# Altium footprint library PcbLib1.PcbLib: 23 footprints (part 1 of 2)
Each footprint in its own frame and in the unit in brackets; x right, y up, seen from the top. Pads: shape width x height; smd on the part's side, far side on the other; paste and mask are expansions set on the pad; w line width, h text height; cw(c..) or ccw(c..) is an arc to the next point about the centre after c.
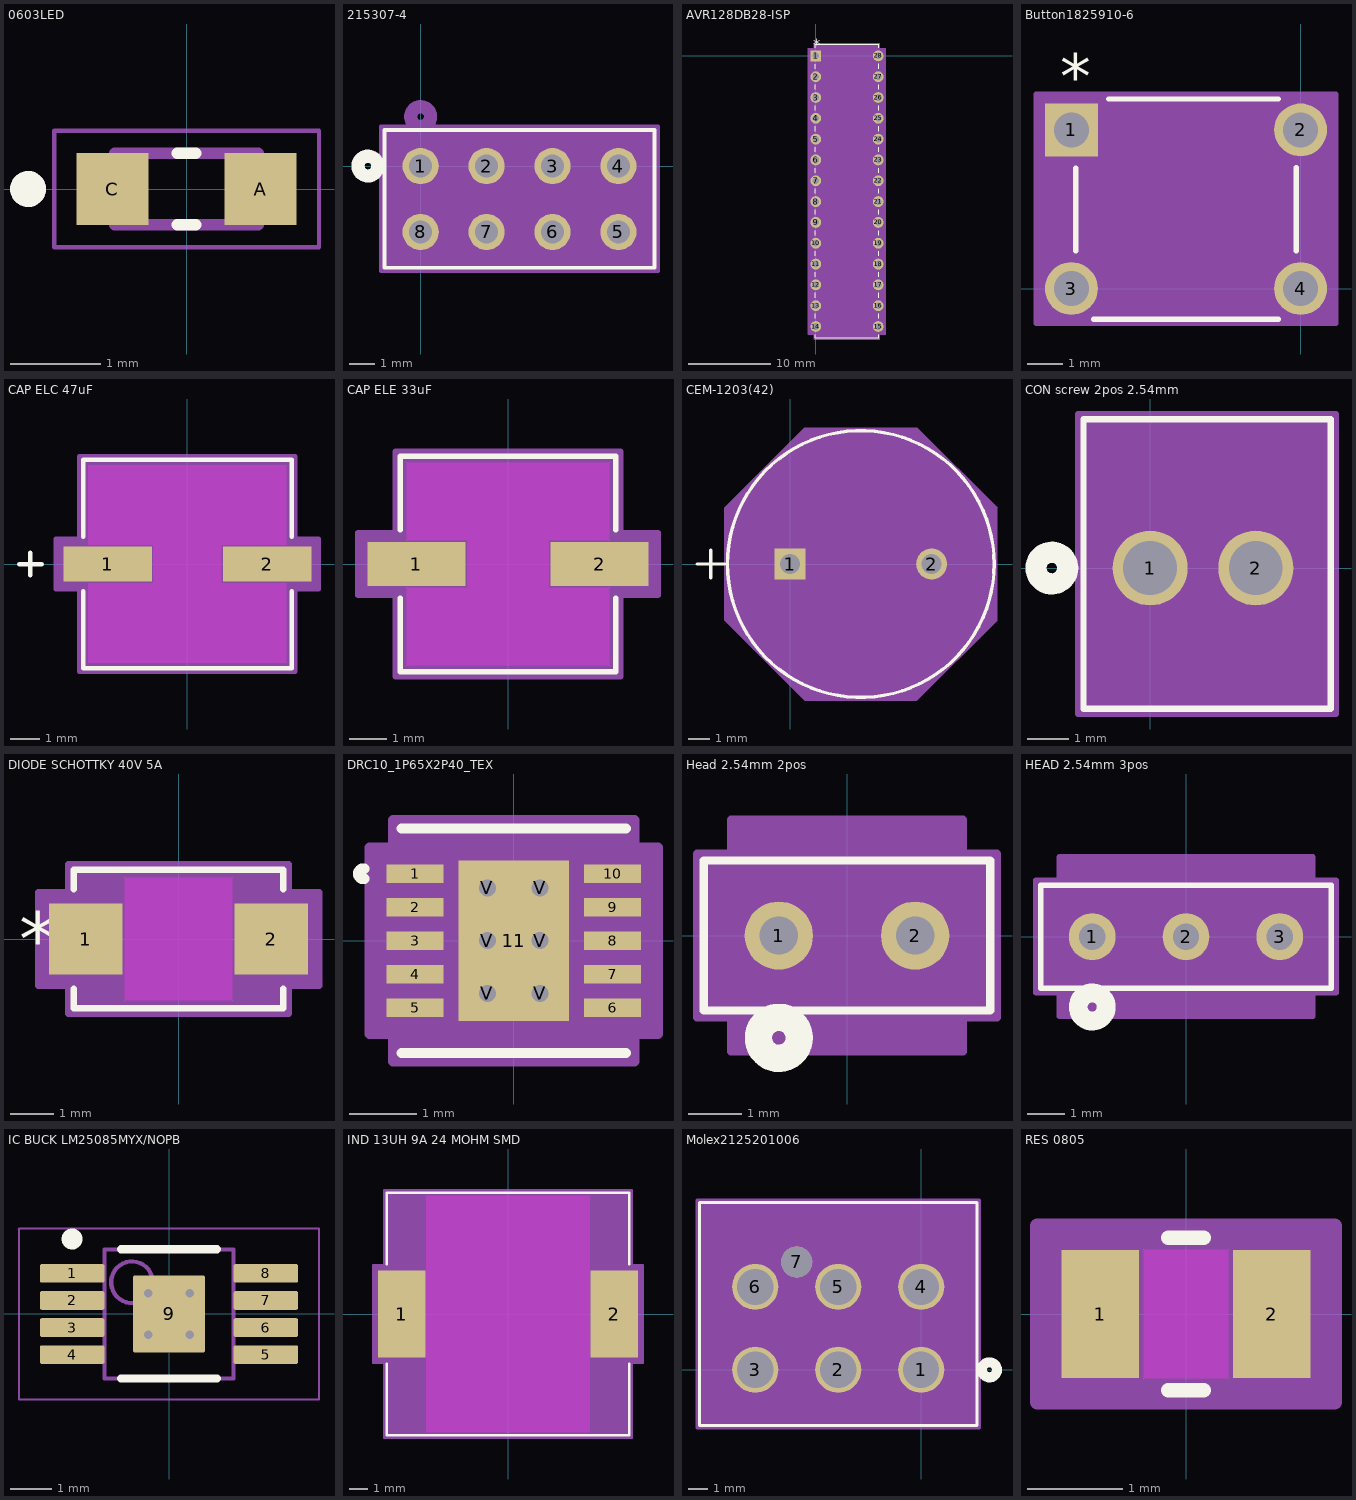
[diagram p0: the footprints below, top view; thin cyan lines are the x and y axes]

## 0603LED [mm]
pads (2):
  rect 0.8x0.8 smd: A(0.825,0) C(-0.825,0)
Top Overlay:
  circle w0.2: c-1.765,0 r0.1
  lines w0.127: -0.105,-0.4 0.105,-0.4 ; -0.105,0.4 0.105,0.4
Mechanical 13:
  circle w0.2: c-1.765,0 r0.1
  lines w0.127: -0.8,-0.4 0.8,-0.4 0.8,0.4 -0.8,0.4 -0.8,-0.4
Mechanical 15:
  lines w0.05: -1.475,-0.65 1.475,-0.65 1.475,0.65 -1.475,0.65 -1.475,-0.65
3D body "step_temp.STEP": height 0.55, standoff 0, extent -0.8,-0.4 0.8,0.4

## 215307-4 [mil]
pads (8):
  round 55 / inner round 60 / far side round 55 hole 35 paste-99999 mask+2: 1(0,0) 2(100,0) 3(200,0) 4(300,0) 5(300,-100) 6(200,-100) 7(100,-100) 8(0,-100)
Top Overlay:
  circle w20: c-80,0 r15
  lines w6: -55,-154.21 355,-154.21 355,55 -55,55 -55,-154.21
Bottom Overlay:
  circle w20: c-80,0 r15
Mechanical 13:
  circle w20: c0,75 r15
  lines w1: -50,-149.21 350,-149.21 350,50 -50,50 -50,-149.21
Mechanical 15:
  region: 360,59.61 -60,59.61 -60,-159.61 360,-159.61
  lines w6: -60,-159.21 -60,60 360,60 360,-159.21 -60,-159.21

## AVR128DB28-ISP [mil]
pads (28):
  rect 52x52 / inner round 60 / far side rect 52x52 hole 32 paste-99999 mask+0: 1(0,0)
  round 52 / inner round 60 / far side round 52 hole 32 paste-99999 mask+0: 2(0,-100) 3(0,-200) 4(0,-300) 5(0,-400) 6(0,-500) 7(0,-600) 8(0,-700) 9(0,-800) 10(0,-900) 11(0,-1000) 12(0,-1100) 13(0,-1200) 14(0,-1300) 15(300,-1300) 16(300,-1200) 17(300,-1100) 18(300,-1000) 19(300,-900) 20(300,-800) 21(300,-700) 22(300,-600) 23(300,-500) 24(300,-400) 25(300,-300) 26(300,-200) 27(300,-100) 28(300,0)
Top Overlay:
  lines w6: -2.5,-1339.02 -2.5,-1355 302.5,-1355 302.5,-1339.02 ; -2.5,-1260.98 -2.5,-1239.02 ; -2.5,-1160.98 -2.5,-1139.02 ; -2.5,-1060.98 -2.5,-1039.02 ; -2.5,-960.98 -2.5,-939.02 ; -2.5,-860.98 -2.5,-839.02 ; -2.5,-760.98 -2.5,-739.02 ; -2.5,-660.98 -2.5,-639.02 ; -2.5,-560.98 -2.5,-539.02 ; -2.5,-460.98 -2.5,-439.02 ; -2.5,-360.98 -2.5,-339.02 ; -2.5,-260.98 -2.5,-239.02 ; -2.5,-160.98 -2.5,-139.02 ; -2.5,-60.98 -2.5,-39.1 ; -2.5,39.1 -2.5,55 302.5,55 302.5,39.02 ; 302.5,-1260.98 302.5,-1239.02 ; 302.5,-1160.98 302.5,-1139.02 ; 302.5,-1060.98 302.5,-1039.02 ; 302.5,-960.98 302.5,-939.02 ; 302.5,-860.98 302.5,-839.02 ; 302.5,-760.98 302.5,-739.02 ; 302.5,-660.98 302.5,-639.02 ; 302.5,-560.98 302.5,-539.02 ; 302.5,-460.98 302.5,-439.02 ; 302.5,-360.98 302.5,-339.02 ; 302.5,-260.98 302.5,-239.02 ; 302.5,-160.98 302.5,-139.02 ; 302.5,-60.98 302.5,-39.02
  text "*" at -12.5,31 h50
Mechanical 13:
  lines w0: 138,50 ccw(c150,50) 162,50
  lines w1: -16,-1316 2.5,-1316 2.5,-1284 -16,-1284 -16,-1316 ; -16,-1216 2.5,-1216 2.5,-1184 -16,-1184 -16,-1216 ; -16,-1116 2.5,-1116 2.5,-1084 -16,-1084 -16,-1116 ; -16,-1016 2.5,-1016 2.5,-984 -16,-984 -16,-1016 ; -16,-916 2.5,-916 2.5,-884 -16,-884 -16,-916 ; -16,-816 2.5,-816 2.5,-784 -16,-784 -16,-816 ; -16,-716 2.5,-716 2.5,-684 -16,-684 -16,-716 ; -16,-616 2.5,-616 2.5,-584 -16,-584 -16,-616 ; -16,-516 2.5,-516 2.5,-484 -16,-484 -16,-516 ; -16,-416 2.5,-416 2.5,-384 -16,-384 -16,-416 ; -16,-316 2.5,-316 2.5,-284 -16,-284 -16,-316 ; -16,-216 2.5,-216 2.5,-184 -16,-184 -16,-216 ; -16,-116 2.5,-116 2.5,-84 -16,-84 -16,-116 ; -16,-16 2.5,-16 2.5,16 -16,16 -16,-16 ; 2.5,-1350 2.5,50 297.5,50 297.5,-1350 2.5,-1350 ; 297.5,-1316 316,-1316 316,-1284 297.5,-1284 297.5,-1316 ; 297.5,-1216 316,-1216 316,-1184 297.5,-1184 297.5,-1216 ; 297.5,-1116 316,-1116 316,-1084 297.5,-1084 297.5,-1116 ; 297.5,-1016 316,-1016 316,-984 297.5,-984 297.5,-1016 ; 297.5,-916 316,-916 316,-884 297.5,-884 297.5,-916 ; 297.5,-816 316,-816 316,-784 297.5,-784 297.5,-816 ; 297.5,-716 316,-716 316,-684 297.5,-684 297.5,-716 ; 297.5,-616 316,-616 316,-584 297.5,-584 297.5,-616 ; 297.5,-516 316,-516 316,-484 297.5,-484 297.5,-516 ; 297.5,-416 316,-416 316,-384 297.5,-384 297.5,-416 ; 297.5,-316 316,-316 316,-284 297.5,-284 297.5,-316 ; 297.5,-216 316,-216 316,-184 297.5,-184 297.5,-216 ; 297.5,-116 316,-116 316,-84 297.5,-84 297.5,-116 ; 297.5,-16 316,-16 316,16 297.5,16 297.5,-16
  text "*" at 0,-25 h50
Mechanical 15:
  region: 307.5,-1336 336,-1336 336,36 307.5,36 307.5,60 -7.5,60 -7.5,36 -36,36 -36,-1336 -7.5,-1336 -7.5,-1360 307.5,-1360
  lines w6: -36,-1336 -7.5,-1336 -7.5,-1360 307.5,-1360 307.5,-1336 336,-1336 336,36 307.5,36 307.5,60 -7.5,60 -7.5,36 -36,36 -36,-1336
3D body "SPDIP28_SP_MCH.step": height 205.12, standoff -100, extent -5,-1350 314.49,50

## Button1825910-6 [mil]
pads (4):
  rect 59x59 / inner round 60 / far side rect 59x59 hole 39 paste-99999 mask+0: 1(-255.91,177.17)
  round 59 / inner round 60 / far side round 59 hole 39 paste-99999 mask-29.5: 2(0,177.17) 3(-255.91,0) 4(0,0)
Top Overlay:
  lines w6: -250.95,42.31 -250.95,134.57 ; -230.8,-34.42 -25.1,-34.42 ; -214.26,211.58 -25.1,211.58 ; -4.95,42.31 -4.95,134.85
  text "*" at -268.41,211.67 h50
Mechanical 13:
  lines w0: -139.95,206.58 ccw(c-127.95,206.58) -115.95,206.58
  lines w1: -275.41,-19.5 -245.95,-19.5 -245.95,19.5 -275.41,19.5 -275.41,-19.5 ; -275.41,157.67 -245.95,157.67 -245.95,196.67 -275.41,196.67 -275.41,157.67 ; -245.95,-29.42 -245.95,206.58 -9.95,206.58 -9.95,-29.42 -245.95,-29.42 ; -9.95,-19.5 19.5,-19.5 19.5,19.5 -9.95,19.5 -9.95,-19.5 ; -9.95,157.67 19.5,157.67 19.5,196.67 -9.95,196.67 -9.95,157.67
  text "*" at -222.5,155 h50
Mechanical 15:
  region: 0,-39 39.5,-39 39.5,217 0,217 0,216.58 -255.95,216.58 -255.91,217 -295.41,217 -295.41,-39 -255.91,-39 -255.95,-39.42 0,-39.42
  lines w6: -295.41,-39 39.5,-39 39.5,217 -295.41,217 -295.41,-39

## CAP ELC 47uF [mil] "UWT1H470MCL1GS"
pads (2):
  rect 118x47 smd paste+0 mask+2: 1(-106.5,0) 2(106.5,0)
Top Layer keep-out:
  region: -132,25.5 -132,132 132,132 132,25.5
  region: -132,-132 -132,-25.5 132,-25.5 132,-132
  region: -45.5,-25.5 -45.5,25.5 45.5,25.5 45.5,-25.5
Top Overlay:
  lines w6: -224.5,0 -194.5,0 ; -209.5,-15 -209.5,15 ; -139,-36.6 -139,-139 139,-139 139,-36.6 ; -139,36.6 -139,139 139,139 139,36.6
Keep-Out Layer:
  region: -45.5,-25.5 -45.5,25.5 45.5,25.5 45.5,-25.5
Mechanical 13:
  lines w1: -224.5,0 -194.5,0 ; -209.5,-15 -209.5,15 ; -134,-67 -67,-134 ; -134,67 -67,134 ; -134,-134 134,-134 134,134 -134,134 -134,-134
Mechanical 15:
  region: -144,-33.5 -175.5,-33.5 -175.5,33.5 -144,33.5 -144,144 144,144 144,33.5 175.5,33.5 175.5,-33.5 144,-33.5 144,-144 -144,-144
  lines w6: -175.5,-33.5 -175.5,33.5 -144,33.5 -144,144 144,144 144,33.5 175.5,33.5 175.5,-33.5 144,-33.5 144,-144 -144,-144 -144,-33.5 -175.5,-33.5
3D body "PCAP_63x77-ELECT_NCA.step": height 317.09, standoff 0, extent -145.51,-134.02 145.51,134.02

## CAP ELE 33uF [mil] "33 µF 25 V Aluminum Electrolytic Capacitors Radial, Can - SMD 2000 Hrs @ 105°C EEE-FK1E330UR"
pads (2):
  rect 103x46 smd paste+0 mask+2: 1(-96.5,0) 2(96.5,0)
Top Layer keep-out:
  region: -43,-25 -43,25 43,25 43,-25
  region: -106.5,25 -106.5,106.5 106.5,106.5 106.5,25
  region: -106.5,-106.5 -106.5,-25 106.5,-25 106.5,-106.5
Top Overlay:
  lines w6: -113.5,-36.1 -113.5,-113.5 113.5,-113.5 113.5,-36.1 ; -113.5,36.1 -113.5,113.5 113.5,113.5 113.5,36.1
Keep-Out Layer:
  region: -43,-25 -43,25 43,25 43,-25
Mechanical 13:
  lines w1: -108.5,-54.25 -54.25,-108.5 ; -108.5,54.25 -54.25,108.5 ; -108.5,-108.5 108.5,-108.5 108.5,108.5 -108.5,108.5 -108.5,-108.5
Mechanical 15:
  region: -118.5,-33 -158,-33 -158,33 -118.5,33 -118.5,118.5 118.5,118.5 118.5,33 158,33 158,-33 118.5,-33 118.5,-118.5 -118.5,-118.5
  lines w6: -158,-33 -158,33 -118.5,33 -118.5,118.5 118.5,118.5 118.5,33 158,33 158,-33 118.5,-33 118.5,-118.5 -118.5,-118.5 -118.5,-33 -158,-33
3D body "CAP_EEFK_C_PAN.step": height 242.09, standoff 0, extent -127.99,-108.5 127.99,108.5

## CEM-1203(42) [mil]
pads (2):
  rect 56x56 / inner round 60 / far side rect 56x56 hole 36 paste-99999 mask+4: 1(0,0)
  round 56 / inner round 60 / far side round 56 hole 36 paste-99999 mask+4: 2(255.91,0)
Top Overlay:
  circle w6: c127.95,0 r241
  lines w6: -168.05,0 -118.05,0 ; -143.05,-25 -143.05,25
Mechanical 13:
  circle w0: c127.95,0 r236
  lines w1: -168.05,0 -118.05,0 ; -143.05,-25 -143.05,25
Mechanical 15:
  region: -118.05,101.29 26.66,246 229.25,246 373.95,101.29 373.95,-101.29 229.25,-246 26.66,-246 -118.05,-101.29
  lines w1: -118.05,-101.29 26.66,-246 229.25,-246 373.95,-101.29 373.95,101.29 229.25,246 26.66,246 -118.05,101.29 -118.05,-101.29
3D body "IC2_CEM-120342_CUD.step": height 335.63, standoff -177.99, extent -108.03,-235.88 365.35,235.88

## CON screw 2pos 2.54mm [mil]
pads (2):
  round 71 / inner round 60 / far side round 71 hole 51 paste-99999 mask+0: 1(0,0) 2(100,0)
Top Overlay:
  circle w20: c-93.06,0 r15
  lines w6: -63.06,-133.17 -63.06,140.83 170.94,140.83 170.94,-133.17 -63.06,-133.17
Bottom Overlay:
  circle w20: c-93.06,0 r15
Mechanical 13:
  circle w20: c0,75 r15
  lines w1: -58.06,-128.17 -58.06,135.83 165.94,135.83 165.94,-128.17 -58.06,-128.17
Mechanical 15:
  region: 175.94,145.83 -68.06,145.83 -68.06,-138.17 175.94,-138.17
  lines w6: -68.06,-138.17 175.94,-138.17 175.94,145.83 -68.06,145.83 -68.06,-138.17

## DIODE SCHOTTKY 40V 5A [mil] "Diode 40 V 5A Surface Mount DO-214AC (SMA) SK54A-LTP"
pads (2):
  rect 67x65 smd paste+0 mask+2: 1(-84.5,0) 2(84.5,0)
Top Layer keep-out:
  region: -49,-56 -49,56 49,56 49,-56
Top Overlay:
  lines w6: -95.5,-45.6 -95.5,-63 95.5,-63 95.5,-45.6 ; -95.5,45.6 -95.5,63 95.5,63 95.5,45.6
  text "*" at -145.5,-25 h50
Keep-Out Layer:
  region: -49,-56 -49,56 49,56 49,-56
Mechanical 13:
  lines w1: -90.5,-29 -61.5,-58 ; -90.5,29 -61.5,58 ; -110,-32.5 -90.5,-32.5 -90.5,32.5 -110,32.5 -110,-32.5 ; -90.5,-58 -90.5,58 90.5,58 90.5,-58 -90.5,-58 ; 90.5,-32.5 110,-32.5 110,32.5 90.5,32.5 90.5,-32.5
  text "*" at -93,-25 h50
Mechanical 15:
  region: -100.5,-42.5 -128,-42.5 -128,42.5 -100.5,42.5 -100.5,68 100.5,68 100.5,42.5 128,42.5 128,-42.5 100.5,-42.5 100.5,-68 -100.5,-68
  lines w6: -128,-42.5 -100.5,-42.5 -100.5,-68 100.5,-68 100.5,-42.5 128,-42.5 128,42.5 100.5,42.5 100.5,68 -100.5,68 -100.5,42.5 -128,42.5 -128,-42.5
3D body "DO-221ACSMA-FL_MCC.step": height 49.25, standoff 0, extent -110,-57.99 110,57.99

## DRC10_1P65X2P40_TEX [mm]
pads (17):
  rect 0.85x0.28 smd paste-0.14 mask+0.025: 1(-1.475,1) 2(-1.475,0.5) 3(-1.475,0) 4(-1.475,-0.5) 5(-1.475,-1) 6(1.475,-1) 7(1.475,-0.5) 8(1.475,0) 9(1.475,0.5) 10(1.475,1)
  rect 1.65x2.4 smd paste-1.187 mask-1.181: 11(0,0)
  round 0.508 / inner round 1.524 / far side round 0.508 hole 0.254 paste-2539.97 mask-0.254: V(-0.394,-0.787) V(-0.394,0) V(-0.394,0.787) V(0.394,-0.787) V(0.394,0) V(0.394,0.787)
Top Layer:
  region: 0,-1.2
  region: 0,1.2
Top Overlay:
  lines w0.152: -2.233,0.926 cw(c-2.252,1) -2.233,1.074 ; -1.677,-1.677 1.677,-1.677 ; -1.677,1.677 1.677,1.677
Top Paste:
  region: 0.75,-0.887 0.635,-0.887 0.494,-1.029 0.494,-1.125 0.75,-1.125
  region: 0.75,-0.1 0.635,-0.1 0.494,-0.241 0.494,-0.546 0.635,-0.687 0.75,-0.687
  region: 0.75,0.687 0.635,0.687 0.494,0.546 0.494,0.241 0.635,0.1 0.75,0.1
  region: 0.75,1.125 0.494,1.125 0.494,1.029 0.635,0.887 0.75,0.887
  region: 0.152,-0.887 -0.152,-0.887 -0.294,-1.029 -0.294,-1.125 0.294,-1.125 0.294,-1.029
  region: 0.152,-0.1 -0.152,-0.1 -0.294,-0.241 -0.294,-0.546 -0.152,-0.687 0.152,-0.687 0.294,-0.546 0.294,-0.241
  region: 0.152,0.687 -0.152,0.687 -0.294,0.546 -0.294,0.241 -0.152,0.1 0.152,0.1 0.294,0.241 0.294,0.546
  region: 0.294,1.125 -0.294,1.125 -0.294,1.029 -0.152,0.887 0.152,0.887 0.294,1.029
  region: -0.635,-0.887 -0.75,-0.887 -0.75,-1.125 -0.494,-1.125 -0.494,-1.029
  region: -0.635,-0.1 -0.75,-0.1 -0.75,-0.687 -0.635,-0.687 -0.494,-0.546 -0.494,-0.241
  region: -0.635,0.687 -0.75,0.687 -0.75,0.1 -0.635,0.1 -0.494,0.241 -0.494,0.546
  region: -0.494,1.125 -0.75,1.125 -0.75,0.887 -0.635,0.887 -0.494,1.029
Top Solder:
  region: 0,-1.2
  region: 0,1.2
  region: 0.594,-1.264 0.594,1.264 0.888,1.264 0.888,-1.264
  region: 0.194,-1.264 0.194,1.264 -0.194,1.264 -0.194,-1.264
  region: -0.888,-1.264 -0.888,1.264 -0.594,1.264 -0.594,-1.264
  region: -0.888,-1.264 -0.888,-0.987 0.888,-0.987 0.888,-1.264
  region: -0.888,-0.587 -0.888,-0.2 0.888,-0.2 0.888,-0.587
  region: -0.888,0.2 -0.888,0.587 0.888,0.587 0.888,0.2
  region: -0.888,0.987 -0.888,1.264 0.888,1.264 0.888,0.987
Mechanical 13:
  circle w0: c-1.05,1 r0.076
  lines w0: -0.305,1.55 ccw(c0,1.55) 0.305,1.55
  lines w0.025: -1.55,-1.55 -1.55,1.55 1.55,1.55 1.55,-1.55 -1.55,-1.55
Mechanical 15:
  region: -1.804,-1.394 -2.154,-1.394 -2.154,1.394 -1.804,1.394 -1.804,1.804 1.804,1.804 1.804,1.394 2.154,1.394 2.154,-1.394 1.804,-1.394 1.804,-1.804 -1.804,-1.804
  lines w0.152: -2.154,-1.394 -1.804,-1.394 -1.804,-1.804 1.804,-1.804 1.804,-1.394 2.154,-1.394 2.154,1.394 1.804,1.394 1.804,1.804 -1.804,1.804 -1.804,1.394 -2.154,1.394 -2.154,-1.394
3D body "DRC10_1P65X2P40_TEX.step": height 1, standoff 0, extent -1.55,-1.55 1.55,1.55

## Head 2.54mm 2pos [mil]
pads (2):
  round 50 / inner round 60 / far side round 50 hole 28 paste-99999 mask+0: 1(-50,0) 2(50,0)
Top Overlay:
  circle w20: c-50,-75 r15
  lines w6: -105,-55 105,-55 105,55 -105,55 -105,-55
Bottom Overlay:
  circle w20: c-50,-75 r15
Mechanical 13:
  circle w0: c-50,0 r10
  lines w1: -100,-50 100,-50 100,50 -100,50 -100,-50
Mechanical 15:
  region: 110,60 85,60 85,85 -85,85 -85,60 -110,60 -110,-60 -85,-60 -85,-85 85,-85 85,-60 110,-60
  lines w6: -110,-60 -110,60 -85,60 -85,85 85,85 85,60 110,60 110,-60 85,-60 85,-85 -85,-85 -85,-60 -110,-60

## HEAD 2.54mm 3pos [mil]
pads (3):
  round 50 / inner round 60 / far side round 50 hole 28 paste-99999 mask+0: 1(-100,0) 2(0,0) 3(100,0)
Top Overlay:
  circle w20: c-100,-75 r15
  lines w6: -155,-55 -155,55 155,55 155,-55 -155,-55
Bottom Overlay:
  circle w20: c-100,-75 r15
Mechanical 13:
  circle w0: c-100,0 r10
  lines w1: -150,-50 -150,50 150,50 150,-50 -150,-50
Mechanical 15:
  region: 160,60 135,60 135,85 -135,85 -135,60 -160,60 -160,-60 -135,-60 -135,-85 135,-85 135,-60 160,-60
  lines w6: -160,-60 -135,-60 -135,-85 135,-85 135,-60 160,-60 160,60 135,60 135,85 -135,85 -135,60 -160,60 -160,-60

## IC BUCK LM25085MYX/NOPB [mm]
pads (9):
  rrect22% 1.55x0.45 smd: 1(-2.325,0.975) 2(-2.325,0.325) 3(-2.325,-0.325) 4(-2.325,-0.975) 5(2.325,-0.975) 6(2.325,-0.325) 7(2.325,0.325) 8(2.325,0.975)
  rrect6% 1.73x1.85 smd: 9(0,0)
via -0.5,0.5 diameter 0.4 hole 0.2
via 0.5,0.5 diameter 0.4 hole 0.2
via -0.5,-0.5 diameter 0.4 hole 0.2
via 0.5,-0.5 diameter 0.4 hole 0.2
Top Overlay:
  circle w0.25: c-2.325,1.8 r0.125
  lines w0.2: -1.15,-1.55 1.15,-1.55 ; -1.15,1.55 1.15,1.55
Mechanical 1:
  text ".Designator" at -1.397,-0.254 h0.7
Mechanical 13:
  circle w0.1: c-0.889,0.762 r0.5
  lines w0.1: -1.55,-1.55 1.55,-1.55 1.55,1.55 -1.55,1.55 -1.55,-1.55
Mechanical 15:
  lines w0.05: -3.6,-2.05 3.6,-2.05 3.6,2.05 -3.6,2.05 -3.6,-2.05
  lines w0.1: -0.5,0 0.5,0 ; 0,-0.5 0,0.5
3D body "MUY08A_ASM.stp": height 0.94, standoff -0.02, extent -2.451,-1.499 2.451,1.499

## IND 13UH 9A 24 MOHM SMD [mil] "13 µH Shielded Molded Inductor 9 A 24mOhm Max Nonstandard"
pads (2):
  rect 100.5x185 smd paste+0 mask+2: 1(-225.25,0) 2(225.25,0)
Top Layer keep-out:
  region: -173,-250 -173,250 173,250 173,-250
Top Overlay:
  lines w6: -257,-105.6 -257,-257 257,-257 257,-105.6 ; -257,105.6 -257,257 257,257 257,105.6
Mechanical 13:
  lines w1: -252,-252 252,-252 252,252 -252,252 -252,-252
Mechanical 15:
  region: -262,-102.5 -285.5,-102.5 -285.5,102.5 -262,102.5 -262,262 262,262 262,102.5 285.5,102.5 285.5,-102.5 262,-102.5 262,-262 -262,-262
  lines w6: -285.5,-102.5 -285.5,102.5 -262,102.5 -262,262 262,262 262,102.5 285.5,102.5 285.5,-102.5 262,-102.5 262,-262 -262,-262 -262,-102.5 -285.5,-102.5
3D body "IND_103NLT_PUL.step": height 27.99, standoff 0, extent -252.01,-252.09 252.01,252.09

## Molex2125201006 [mil]
pads (7):
  round 92 / inner round 60 / far side round 92 hole 72 paste-99999 mask+0: 1(0,0) 2(-165.35,0) 3(-330.71,0) 4(0,165.35) 5(-165.35,165.35) 6(-330.71,165.35)
  round 62 / inner round 60 / far side round 62 hole 62 unplated paste-99999 mask-31: 7(-248.03,214.96)
Top Overlay:
  circle w20: c136.15,0 r15
  lines w6: -441.85,-111.26 111.15,-111.26 111.15,333.74 -441.85,333.74 -441.85,-111.26
Bottom Overlay:
  circle w20: c136.15,0 r15
Mechanical 13:
  circle w20: c0,-75 r15
  lines w1: -436.85,-106.26 106.15,-106.26 106.15,328.74 -436.85,328.74 -436.85,-106.26
Mechanical 15:
  region: 116.15,338.74 -446.85,338.74 -446.85,-116.26 116.15,-116.26
  lines w6: -446.85,-116.26 -446.85,338.74 116.15,338.74 116.15,-116.26 -446.85,-116.26

## RES 0805 [mil]
pads (2):
  rect 32x53 smd paste+0 mask+2: 1(-35.5,0) 2(35.5,0)
Top Layer keep-out:
  region: -17.5,-24.5 -17.5,24.5 17.5,24.5 17.5,-24.5
Top Overlay:
  lines w6: -7.39,-31.5 7.39,-31.5 ; -7.39,31.5 7.39,31.5
Keep-Out Layer:
  region: -17.5,-26.5 -17.5,26.5 17.5,26.5 17.5,-26.5
Mechanical 13:
  lines w1: -43.5,-26.5 -43.5,26.5 ; -43.5,-26.5 -19.5,-26.5 -19.5,26.5 -43.5,26.5 ; -43.5,-26.5 43.5,-26.5 ; -43.5,-26.5 -43.5,26.5 ; -43.5,26.5 43.5,26.5 ; 43.5,-26.5 19.5,-26.5 19.5,26.5 43.5,26.5 ; 43.5,-26.5 43.5,26.5 ; 43.5,-26.5 43.5,26.5
Mechanical 15:
  region: 61.5,-36.5 -61.5,-36.5 -61.5,36.5 61.5,36.5
  lines w6: -61.5,-36.5 -61.5,36.5 61.5,36.5 61.5,-36.5 -61.5,-36.5
3D body "STA_RMCF0805_STP.step": height 25.98, standoff 0, extent -43.5,-26.5 43.5,26.5